# EAGLE library part 68613014122 (library Eagle_FPC_CONNECTOR_AND_FFC_CAB (rev18c))
WR-FPC 1.00mm SMT ZIF Horizontal Top Contact, 30 Pins=>Code : Con_FPC_ZIF_1.00_68613014122 <http://katalog.we-online.de/media/images/eican/Con_FPC_ZIF_1.00_6861xx14122_pf2.jpg> Details see: http://katalog.we-online.de/en/em/686_1xx_141_22 Created 2014-07-09, Karrer Zheng 2014 (C) Würth Elektronik
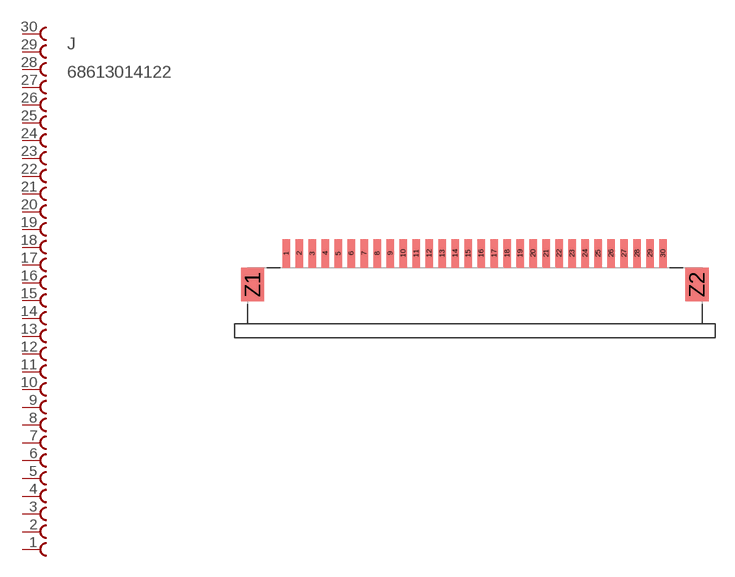
[diagram p52: symbol with the pads of 68613014122; footprint 68613014122]

Designator prefix J

## 68613014122  [68613014122]
1  30  pas
2  29  pas
3  28  pas
4  27  pas
5  26  pas
6  25  pas
7  24  pas
8  23  pas
9  22  pas
10  21  pas
11  20  pas
12  19  pas
13  18  pas
14  17  pas
15  16  pas
16  15  pas
17  14  pas
18  13  pas
19  12  pas
20  11  pas
21  10  pas
22  9  pas
23  8  pas
24  7  pas
25  6  pas
26  5  pas
27  4  pas
28  3  pas
29  2  pas
30  1  pas

## Footprint 68613014122 (pad centres in mm)
WR-FPC 1.00mm SMT ZIF Horizontal Top Contact, 30 Pins
smd 0.6 x 2.2: 1 -14.5,2.4; 2 -13.5,2.4; 3 -12.5,2.4; 4 -11.5,2.4; 5 -10.5,2.4; 6 -9.5,2.4; 7 -8.5,2.4; 8 -7.5,2.4; 9 -6.5,2.4; 10 -5.5,2.4; 11 -4.5,2.4; 12 -3.5,2.4; 13 -2.5,2.4; 14 -1.5,2.4; 15 -0.5,2.4; 16 0.5,2.4; 17 1.5,2.4; 18 2.5,2.4; 19 3.5,2.4; 20 4.5,2.4; 21 5.5,2.4; 22 6.5,2.4; 23 7.5,2.4; 24 8.5,2.4; 25 9.5,2.4; 26 10.5,2.4; 27 11.5,2.4; 28 12.5,2.4; 29 13.5,2.4; 30 14.5,2.4
smd 1.8 x 2.6: Z1 -17.1,0; Z2 17.1,0